# Altium footprint library Connectors.PcbLib: 37 footprints (part 3 of 3)
Each footprint in its own frame and in the unit in brackets; x right, y up, seen from the top. Pads: shape width x height; smd on the part's side, far side on the other; paste and mask are expansions set on the pad; w line width, h text height; cw(c..) or ccw(c..) is an arc to the next point about the centre after c.
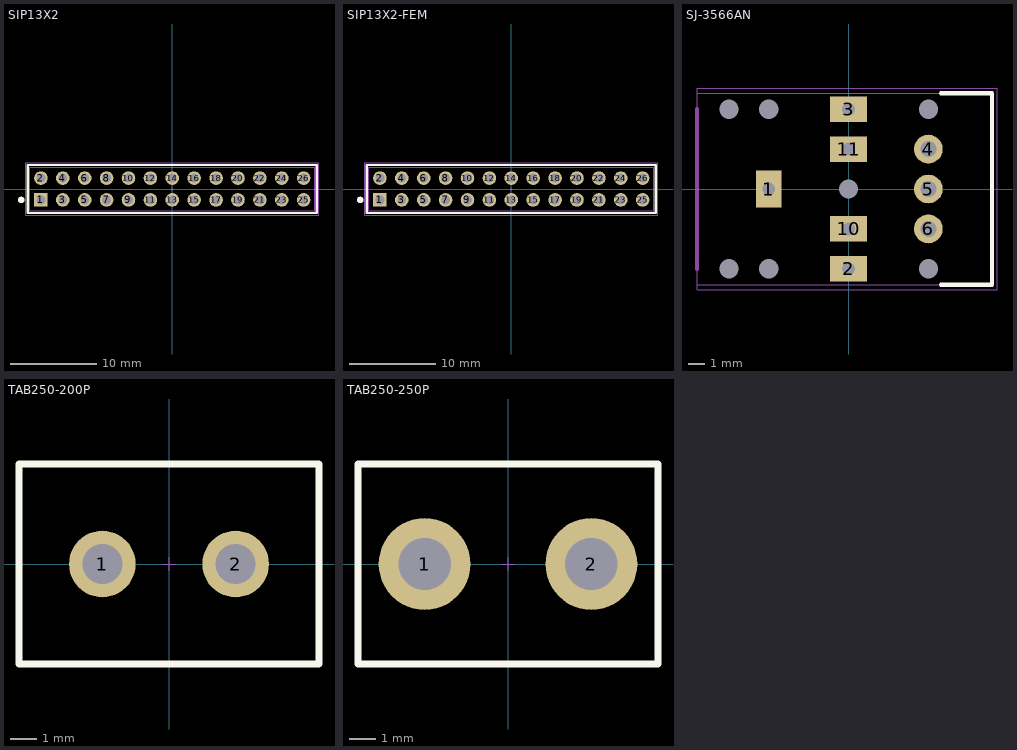
[diagram p2: the footprints below, top view; thin cyan lines are the x and y axes]

## SIP13X2 [mil]
pads (26):
  rect 62x62 hole 40: 1(-600,-50)
  round 62 hole 40: 2(-600,50) 3(-500,-50) 4(-500,50) 5(-400,-50) 6(-400,50) 7(-300,-50) 8(-300,50) 9(-200,-50) 10(-200,50) 11(-100,-50) 12(-100,50) 13(0,-50) 14(0,50) 15(100,-50) 16(100,50) 17(200,-50) 18(200,50) 19(300,-50) 20(300,50) 21(400,-50) 22(400,50) 23(500,-50) 24(500,50) 25(600,-50) 26(600,50)
Top Overlay:
  circle w10: c-690,-50 r4.92
  circle w10: c-690,-50 r10
  lines w10: -660,-110 660,-110 660,110 -660,110 -660,-110
Top Courtyard:
  lines w1: -670,-120 670,-120 670,120 -670,120 -670,-120
Top Assembly:
  lines w1: -5,0 5,0 ; 0,-5 0,5 ; -650,-100 -650,100 650,100 650,-100 -650,-100
3D body "TSW-113-07-G-D.stp": height 330, standoff -100, extent -650,-100 650,100

## SIP13X2-FEM [mil]
pads (26):
  rect 62x62 hole 40: 1(-600,-50)
  round 62 hole 40: 2(-600,50) 3(-500,-50) 4(-500,50) 5(-400,-50) 6(-400,50) 7(-300,-50) 8(-300,50) 9(-200,-50) 10(-200,50) 11(-100,-50) 12(-100,50) 13(0,-50) 14(0,50) 15(100,-50) 16(100,50) 17(200,-50) 18(200,50) 19(300,-50) 20(300,50) 21(400,-50) 22(400,50) 23(500,-50) 24(500,50) 25(600,-50) 26(600,50)
Top Overlay:
  circle w10: c-690,-50 r4.92
  circle w10: c-690,-50 r10
  lines w10: -660,-110 660,-110 660,110 -660,110 -660,-110
Top Courtyard:
  lines w1: -670,-120 670,-120 670,120 -670,120 -670,-120
Top Assembly:
  lines w1: -5,0 5,0 ; 0,-5 0,5 ; -650,-100 -650,100 650,100 650,-100 -650,-100
3D body "PPTC132LFBN-RC--3DModel-STEP-269445.STEP": height 335, standoff -134, extent -660,-100 660,100

## SJ-3566AN [mm]
pads (15):
  rect 1.6x2.3 hole 0.8 square: 1(-5,0)
  rect 2.3x1.6 hole 0.8 square: 2(0,-5) 3(0,5) 10(0,-2.5) 11(0,2.5)
  round 1.8 hole 1: 4(5,2.5) 5(5,0) 6(5,-2.5)
  round 0 hole 1.2 unplated: NC(-7.5,-5) NC(-7.5,5) NC(-5,-5) NC(-5,5) NC(0,0) NC(5,-5) NC(5,5)
Top Overlay:
  lines w0.254: 5.8,-6 9,-6 9,6 5.8,6
Top Courtyard:
  lines w0.025: -9.5,-6.3 9.3,-6.3 9.3,6.3 -9.5,6.3 -9.5,-6.3
Top Assembly:
  lines w0.025: -0.508,0 0.508,0 ; 0,-0.508 0,0.508 ; -9.5,-6 9.004,-6 9.004,6 -9.5,6 -9.5,-6
Board Edge:
  lines w0.254: -9.5,-5 -9.5,5
3D body "CUI_DEVICES_SJ-3566AN.step": height 6.51, standoff -2.29, extent -11.45,-6 7.05,6

## TAB250-200P [mil]
pads (2):
  round 100 hole 60: 1(-100,0) 2(100,0)
Top Overlay:
  lines w10: -225,-150 -225,150 225,150 225,-150 -225,-150
Top Courtyard:
  lines w1: -225,-150 -225,150 225,150 225,-150 -225,-150
Top Assembly:
  lines w1: -10,0 10,0 ; 0,-10 0,10
3D body "1217861-1.stp": height 415.5, standoff -136.5, extent -156,-60.75 156,60.75

## TAB250-250P [mm]
pads (2):
  round 3.5 hole 2: 1(-3.175,0) 2(3.175,0)
Top Overlay:
  lines w0.254: -5.715,-3.81 5.715,-3.81 5.715,3.81 -5.715,3.81 -5.715,-3.81
Top Courtyard:
  lines w0.025: -5.715,-3.81 5.715,-3.81 5.715,3.81 -5.715,3.81 -5.715,-3.81
Top Assembly:
  lines w0.025: -0.254,0 0.254,0 ; 0,-0.254 0,0.254
3D body: height 9.91, standoff 0, extent -3.873,-1.546 3.873,1.546